# EAGLE library part IC_FPGA_XC3S250E (library dp_devices)
xc3s250e_vq100_1532 edit this description Auto generated by make-symbol-device-package-bsdl.ulp Rev. 34 Source: xc3s250e_vq100_1532.bsd
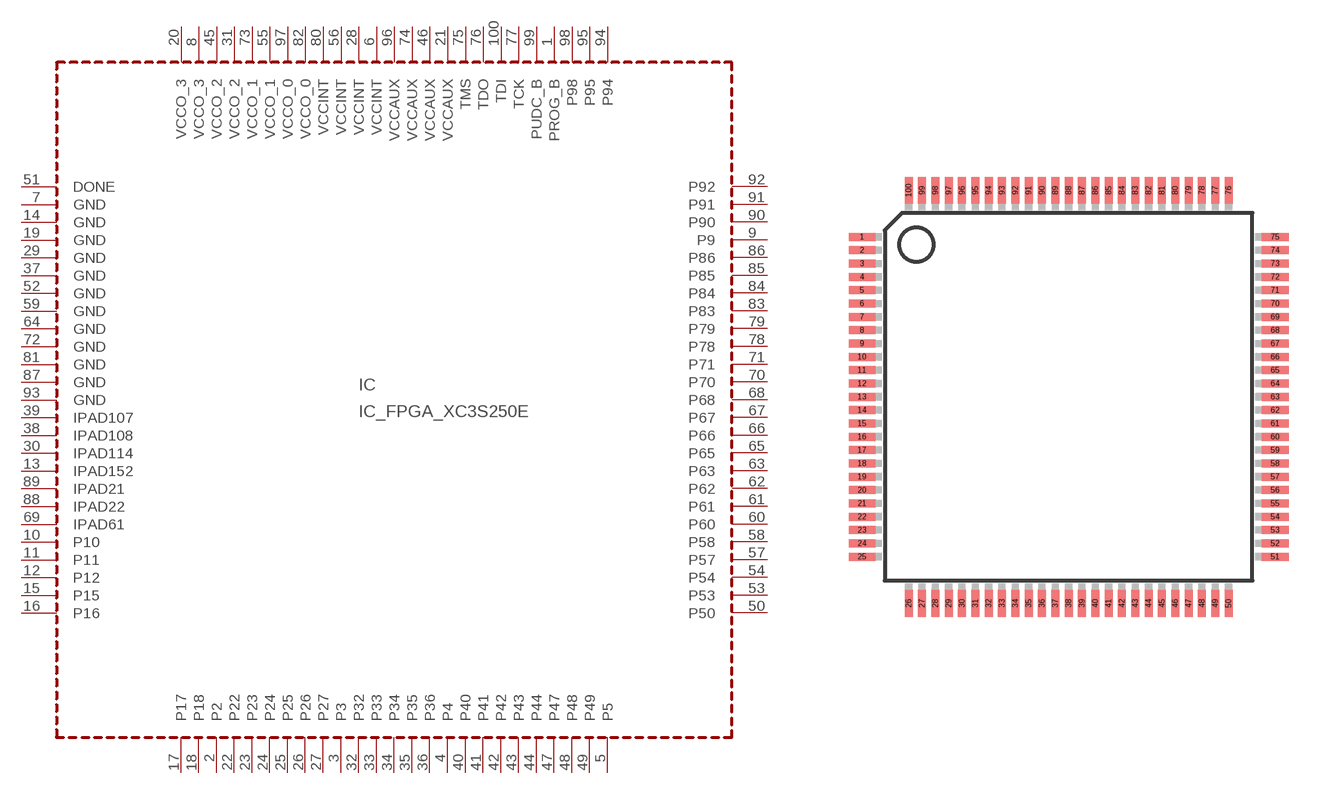
[diagram p40: symbol with the pads of VQ-100; footprint VQ-100]

Designator prefix IC

## IC_FPGA_XC3S250E  [VQ-100]
1  PROG_B  in
2  P2
3  P3
4  P4
5  P5
6  VCCINT  pwr
7  GND  pwr
8  VCCO_3  pwr
9  P9
10  P10
11  P11
12  P12
13  IPAD152  in
14  GND  pwr
15  P15
16  P16
17  P17
18  P18
19  GND  pwr
20  VCCO_3  pwr
21  VCCAUX  pwr
22  P22
23  P23
24  P24
25  P25
26  P26
27  P27
28  VCCINT  pwr
29  GND  pwr
30  IPAD114  in
31  VCCO_2  pwr
32  P32
33  P33
34  P34
35  P35
36  P36
37  GND  pwr
38  IPAD108  in
39  IPAD107  in
40  P40
41  P41
42  P42
43  P43
44  P44
45  VCCO_2  pwr
46  VCCAUX  pwr
47  P47
48  P48
49  P49
50  P50
51  DONE
52  GND  pwr
53  P53
54  P54
55  VCCO_1  pwr
56  VCCINT  pwr
57  P57
58  P58
59  GND  pwr
60  P60
61  P61
62  P62
63  P63
64  GND  pwr
65  P65
66  P66
67  P67
68  P68
69  IPAD61  in
70  P70
71  P71
72  GND  pwr
73  VCCO_1  pwr
74  VCCAUX  pwr
75  TMS  in
76  TDO  out
77  TCK  in
78  P78
79  P79
80  VCCINT  pwr
81  GND  pwr
82  VCCO_0  pwr
83  P83
84  P84
85  P85
86  P86
87  GND  pwr
88  IPAD22  in
89  IPAD21  in
90  P90
91  P91
92  P92
93  GND  pwr
94  P94
95  P95
96  VCCAUX  pwr
97  VCCO_0  pwr
98  P98
99  PUDC_B  in
100  TDI  in

## Footprint VQ-100 (pad centres in mm)
smd 1 x 0.3: 1 -7.75,6; 2 -7.75,5.5; 3 -7.75,5; 4 -7.75,4.5; 5 -7.75,4; 6 -7.75,3.5; 7 -7.75,3; 8 -7.75,2.5; 9 -7.75,2; 10 -7.75,1.5; 11 -7.75,1; 12 -7.75,0.5; 13 -7.75,0; 14 -7.75,-0.5; 15 -7.75,-1; 16 -7.75,-1.5; 17 -7.75,-2; 18 -7.75,-2.5; 19 -7.75,-3; 20 -7.75,-3.5; 21 -7.75,-4; 22 -7.75,-4.5; 23 -7.75,-5; 24 -7.75,-5.5; 25 -7.75,-6; 51 7.75,-6; 52 7.75,-5.5; 53 7.75,-5; 54 7.75,-4.5; 55 7.75,-4; 56 7.75,-3.5; 57 7.75,-3; 58 7.75,-2.5; 59 7.75,-2; 60 7.75,-1.5; 61 7.75,-1; 62 7.75,-0.5; 63 7.75,0; 64 7.75,0.5; 65 7.75,1; 66 7.75,1.5; 67 7.75,2; 68 7.75,2.5; 69 7.75,3; 70 7.75,3.5; 71 7.75,4; 72 7.75,4.5; 73 7.75,5; 74 7.75,5.5; 75 7.75,6
smd 0.3 x 1: 26 -6,-7.75; 27 -5.5,-7.75; 28 -5,-7.75; 29 -4.5,-7.75; 30 -4,-7.75; 31 -3.5,-7.75; 32 -3,-7.75; 33 -2.5,-7.75; 34 -2,-7.75; 35 -1.5,-7.75; 36 -1,-7.75; 37 -0.5,-7.75; 38 0,-7.75; 39 0.5,-7.75; 40 1,-7.75; 41 1.5,-7.75; 42 2,-7.75; 43 2.5,-7.75; 44 3,-7.75; 45 3.5,-7.75; 46 4,-7.75; 47 4.5,-7.75; 48 5,-7.75; 49 5.5,-7.75; 50 6,-7.75; 76 6,7.75; 77 5.5,7.75; 78 5,7.75; 79 4.5,7.75; 80 4,7.75; 81 3.5,7.75; 82 3,7.75; 83 2.5,7.75; 84 2,7.75; 85 1.5,7.75; 86 1,7.75; 87 0.5,7.75; 88 0,7.75; 89 -0.5,7.75; 90 -1,7.75; 91 -1.5,7.75; 92 -2,7.75; 93 -2.5,7.75; 94 -3,7.75; 95 -3.5,7.75; 96 -4,7.75; 97 -4.5,7.75; 98 -5,7.75; 99 -5.5,7.75; 100 -6,7.75